# EAGLE library part DECADE-BTSMART2540 (library DECADE-libraries)
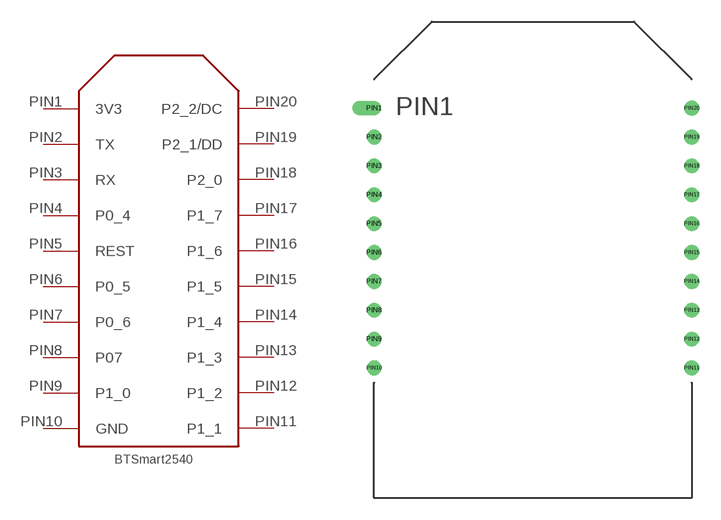
[diagram p7: symbol with the pads of DECADE-BLE-BTSMARTCC2540; footprint DECADE-BLE-BTSMARTCC2540]

Designator prefix -

## DECADE-BTSMART2540  [DECADE-BLE-BTSMARTCC2540]
PIN1  3V3
PIN2  TX
PIN3  RX
PIN4  P0_4
PIN5  REST
PIN6  P0_5
PIN7  P0_6
PIN8  P07
PIN9  P1_0
PIN10  GND
PIN11  P1_1
PIN12  P1_2
PIN13  P1_3
PIN14  P1_4
PIN15  P1_5
PIN16  P1_6
PIN17  P1_7
PIN18  P2_0
PIN19  P2_1/DD
PIN20  P2_2/DC

## Footprint DECADE-BLE-BTSMARTCC2540 (pad centres in mm)
drill 0.51 offset: PIN1 -11,9.5
drill 0.51: PIN2 -11,7.5; PIN3 -11,5.5; PIN4 -11,3.5; PIN5 -11,1.5; PIN6 -11,-0.5; PIN7 -11,-2.5; PIN8 -11,-4.5; PIN9 -11,-6.5; PIN10 -11,-8.5; PIN11 11,-8.5; PIN12 11,-6.5; PIN13 11,-4.5; PIN14 11,-2.5; PIN15 11,-0.5; PIN16 11,1.5; PIN17 11,3.5; PIN18 11,5.5; PIN19 11,7.5; PIN20 11,9.5